# Altium footprint library 5034800540.PcbLib: 1 footprints
Each footprint in its own frame and in the unit in brackets; x right, y up, seen from the top. Pads: shape width x height; smd on the part's side, far side on the other; paste and mask are expansions set on the pad; w line width, h text height; cw(c..) or ccw(c..) is an arc to the next point about the centre after c.
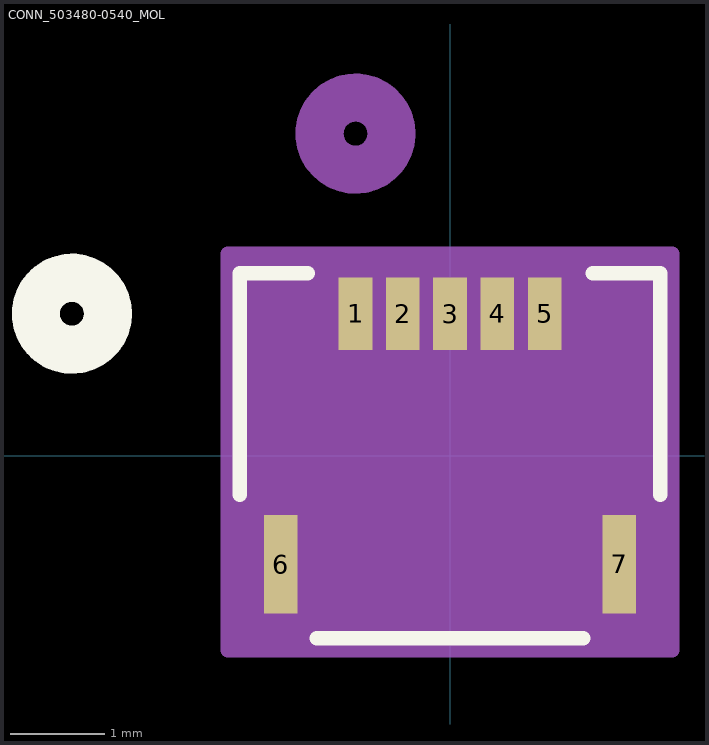
[diagram p0: the footprint, top view; thin cyan lines are the x and y axes]

## CONN_503480-0540_MOL [mil]
pads (7):
  rect 14x30 smd paste+0 mask+0: 1(-39.37,59.19) 2(-19.68,59.19) 3(0,59.19) 4(19.68,59.19) 5(39.37,59.19)
  rect 14x41 smd: 6(-70.47,-45.14) 7(70.47,-45.14)
Top Overlay:
  circle w20: c-157.5,59.19 r15
  lines w6: -87.5,-16.21 -87.5,76 -59.34,76 ; -55.45,-76 55.45,-76 ; 59.34,76 87.5,76 87.5,-16.21
Bottom Overlay:
  circle w20: c-157.5,59.19 r15
Mechanical 13:
  circle w20: c-39.37,134.19 r15
  lines w1: -82.5,-71 82.5,-71 82.5,71 -82.5,71 -82.5,-71
Mechanical 15:
  region: 92.5,84.19 -92.5,84.19 -92.5,-81 92.5,-81
  lines w6: -92.5,-81 -92.5,84.19 92.5,84.19 92.5,-81 -92.5,-81
3D body "5034800540.stp": height 72.72, standoff -0.79, extent -80.35,-70.87 85,70.87